# EAGLE library part TUSB2046B_LQFP (library TI)
Digi-Key Part Number 296-11087-1-ND Manufacturer Part Number TUSB2046BIVFR Description IC 4-PORT USB HUB 32-LQFP Package / Case 32-LQFP Supplier Device Package 32-LQFP (7x7) http://www.digikey.com/product-detail/en/TUSB2046BIVFR/296-11087-1-ND/381722 Controller Type USB Hub Interface Serial EEPROM Voltage - Supply 3 V ~ 3.6 V Current - Supply 40mA Operating Temperature -40°C ~ 85°C Mounting Type Surface Mount
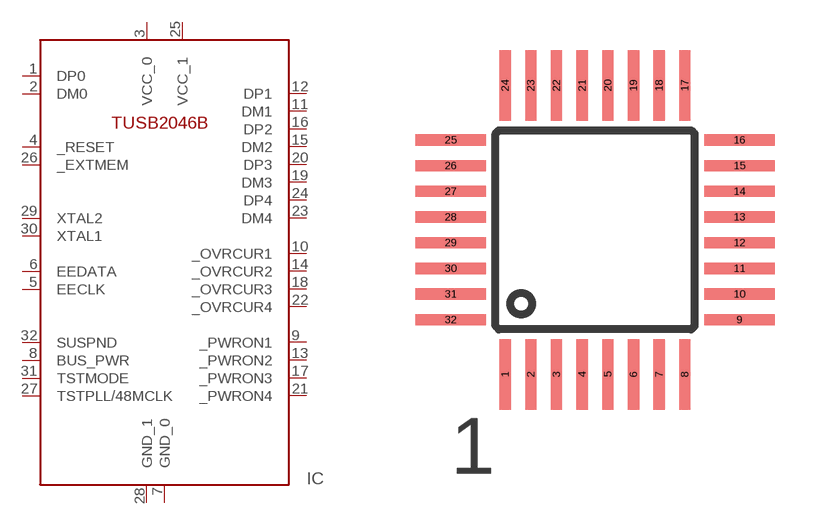
[diagram p31: symbol with the pads of LQFP-32; footprint LQFP-32]

Designator prefix IC

## TUSB2046B_LQFP-LQFP-32  [LQFP-32]
1  DP0
2  DM0
3  VCC_0
4  _RESET
5  EECLK
6  EEDATA
7  GND_0
8  BUS_PWR
9  _PWRON1
10  _OVRCUR1
11  DM1
12  DP1
13  _PWRON2
14  _OVRCUR2
15  DM2
16  DP2
17  _PWRON3
18  _OVRCUR3
19  DM3
20  DP3
21  _PWRON4
22  _OVRCUR4
23  DM4
24  DP4
25  VCC_1
26  _EXTMEM
27  TSTPLL/48MCLK
28  GND_1
29  XTAL2
30  XTAL1
31  TSTMODE
32  SUSPND

## Footprint LQFP-32 (pad centres in mm)
smd 0.35 x 2.2: 1 -2.8,-4.5; 2 -2,-4.5; 3 -1.2,-4.5; 4 -0.4,-4.5; 5 0.4,-4.5; 6 1.2,-4.5; 7 2,-4.5; 8 2.8,-4.5; 17 2.8,4.5; 18 2,4.5; 19 1.2,4.5; 20 0.4,4.5; 21 -0.4,4.5; 22 -1.2,4.5; 23 -2,4.5; 24 -2.8,4.5
smd 2.2 x 0.35: 9 4.5,-2.8; 10 4.5,-2; 11 4.5,-1.2; 12 4.5,-0.4; 13 4.5,0.4; 14 4.5,1.2; 15 4.5,2; 16 4.5,2.8; 25 -4.5,2.8; 26 -4.5,2; 27 -4.5,1.2; 28 -4.5,0.4; 29 -4.5,-0.4; 30 -4.5,-1.2; 31 -4.5,-2; 32 -4.5,-2.8